# Altium footprint library FUSE_0154010.DR.PcbLib: 1 footprints
Each footprint in its own frame and in the unit in brackets; x right, y up, seen from the top. Pads: shape width x height; smd on the part's side, far side on the other; paste and mask are expansions set on the pad; w line width, h text height; cw(c..) or ccw(c..) is an arc to the next point about the centre after c.
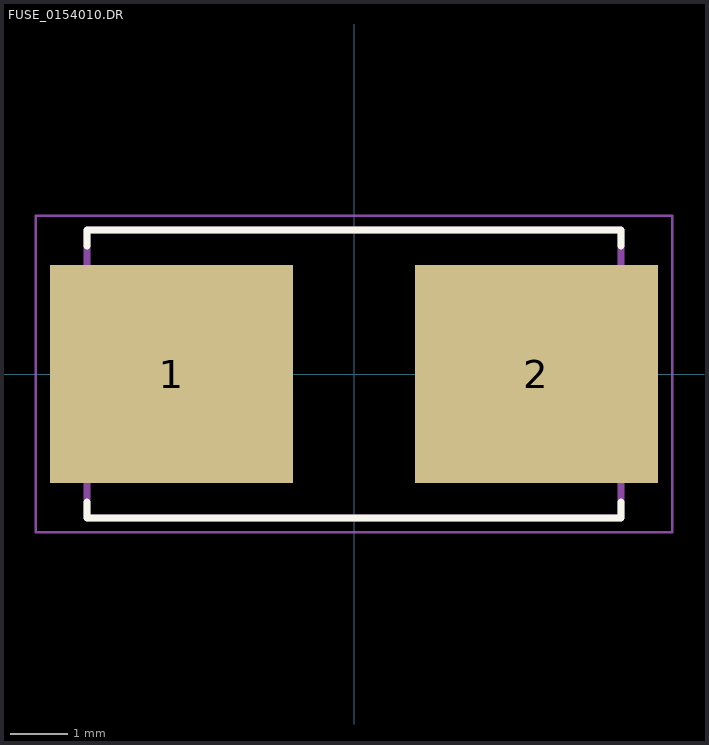
[diagram p0: the footprint, top view; thin cyan lines are the x and y axes]

## FUSE_0154010.DR [mil]
height 150
pads (2):
  rect 167x150 smd: 1(-125.5,0) 2(125.5,0)
Top Overlay:
  lines w5: -183.66,-87.99 -183.66,-99.02 183.66,-99.02 183.66,-87.99 ; -183.66,87.99 -183.66,99.02 183.66,99.02 183.66,87.99
Assembly Top:
  lines w5: -183.66,-99.02 183.66,-99.02 183.66,99.02 -183.66,99.02 -183.66,-99.02
Courtyard Top:
  lines w1.97: -218.84,-108.86 -218.84,108.86 218.84,108.86 218.84,-108.86 -218.84,-108.86
3D body "step_temp.STEP": height 150, standoff 0, extent -191.54,-99.02 191.54,99.02